# EAGLE library part IRS20752LTRPBF (library ICs)
High-Side Gate Driver IC Non-Inverting SOT-23-6
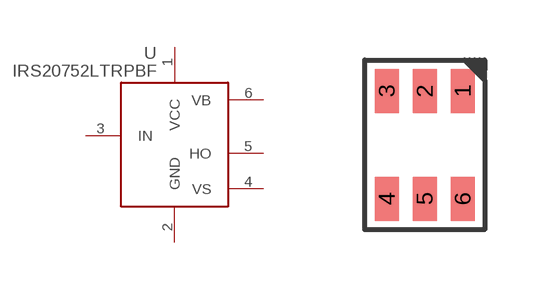
[diagram p207: symbol with the pads of SOT23-6; footprint SOT23-6]

Designator prefix U

## IRS20752LTRPBF (DIGIKEY: IRS20752LTRPBFCT-ND; HEIGHT: 2; PRICE_PER: 0.68; VALUE: IRS20752)  [SOT23-6]
1  VCC
2  GND
3  IN
4  VS
5  HO
6  VB

## Footprint SOT23-6 (pad centres in mm)
smd 0.6 x 1.1: 1 0.95,1.35; 2 0,1.35; 3 -0.95,1.35; 4 -0.95,-1.35; 5 0,-1.35; 6 0.95,-1.35